# EAGLE library part 2301826-2 (library SamacSys_Parts)
D-Sub Standard Connectors AMPL PLUG HD20 VERT 9P, B/L,4-40 S/LOC Source: Datasheet <https://componentsearchengine.com/Datasheets/1/2301826-2.pdf>
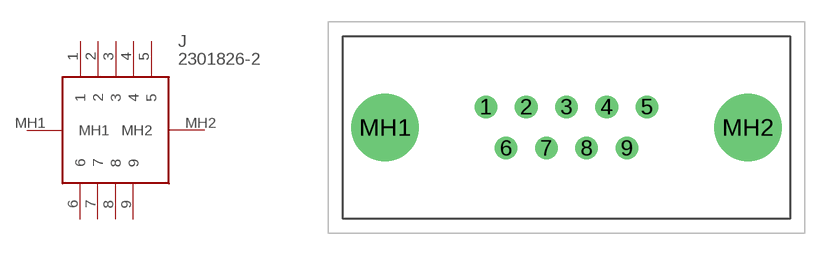
[diagram p2: symbol with the pads of 23018262; footprint 23018262]

Designator prefix J

## 2301826-2 (Description: D-Sub Standard Connectors AMPL PLUG HD20 VERT 9P, B/L,4-40 S/LOC; Height: 12.48mm; Manufacturer_Name: TE Connectivity; Manufacturer_Part_Number: 2301826-2; Mouser_Part_Number: 571-2301826-2; Mouser_Price-Stock: https://www.mouser.co.uk/ProductDetail/TE-Connectivity/2301826-2?qs=YCa%2FAAYMW01innH%2F05o6MQ%3D%3D)  [23018262]
1  1
2  2
3  3
4  4
5  5
6  6
7  7
8  8
9  9
MH1  MH1
MH2  MH2

## Footprint 23018262 (pad centres in mm)
2301826-2-2
drill 1.04 pad 1.56: 1 0,0; 2 2.77,0; 3 5.54,0; 4 8.31,0; 5 11.08,0; 6 1.385,-2.84; 7 4.155,-2.84; 8 6.925,-2.84; 9 9.695,-2.84
drill 3.1 pad 4.65: MH1 -6.955,-1.42; MH2 18.035,-1.42